# Altium integrated library SN74AUP1G08DCKR.IntLib: 1 symbol
Pins are listed as number, name and electrical type; pins without a type are passive.

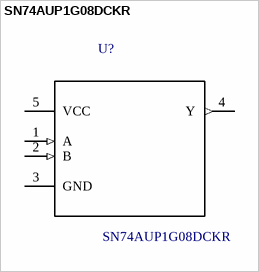
[diagram p0: symbol SN74AUP1G08DCKR]

## SN74AUP1G08DCKR
designator U?
Low-Power Single 2-Input Positive-AND Gate 5-SC70 -40 to 85; MF: Texas Instruments; Price: 0.13 USD; Package: SC-70-5 Texas Instruments; SnapEDA_Link: https://www.snapeda.com/parts/SN74AUP1G08DCKR/Texas%2520Instruments/view-part/?ref=snap; MP: SN74AUP1G08DCKR; Availability: Good; Value: *
footprint SOT65P210X110-5N
pins: 1 A (in), 2 B (in), 3 GND, 4 Y (out), 5 VCC (power)